# Altium schematic symbol library TPS.SchLib: 1 symbol
Pins are listed as number, name and electrical type; pins without a type are passive.

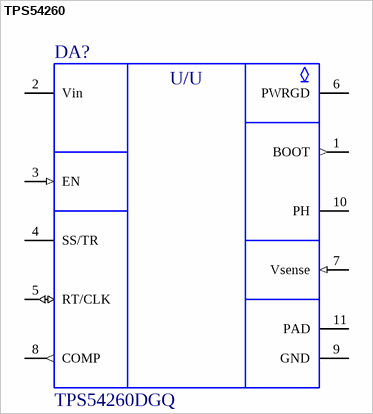
[diagram p0: symbol TPS54260]

## TPS54260
designator DA?, comment TPS54260DGQ
Step down converter; ValueSCH: TPS54260DGQ
pins: 1 BOOT (out), 2 Vin (power), 3 EN (in), 4 SS/TR, 5 RT/CLK (io), 6 PWRGD (oc), 7 Vsense (in), 8 COMP (out), 9 GND (power), 10 PH (oe), 11 PAD (power)
text: U/U